# Altium footprint library NODE_V2.PcbLib: 36 footprints (part 1 of 3)
Each footprint in its own frame and in the unit in brackets; x right, y up, seen from the top. Pads: shape width x height; smd on the part's side, far side on the other; paste and mask are expansions set on the pad; w line width, h text height; cw(c..) or ccw(c..) is an arc to the next point about the centre after c.
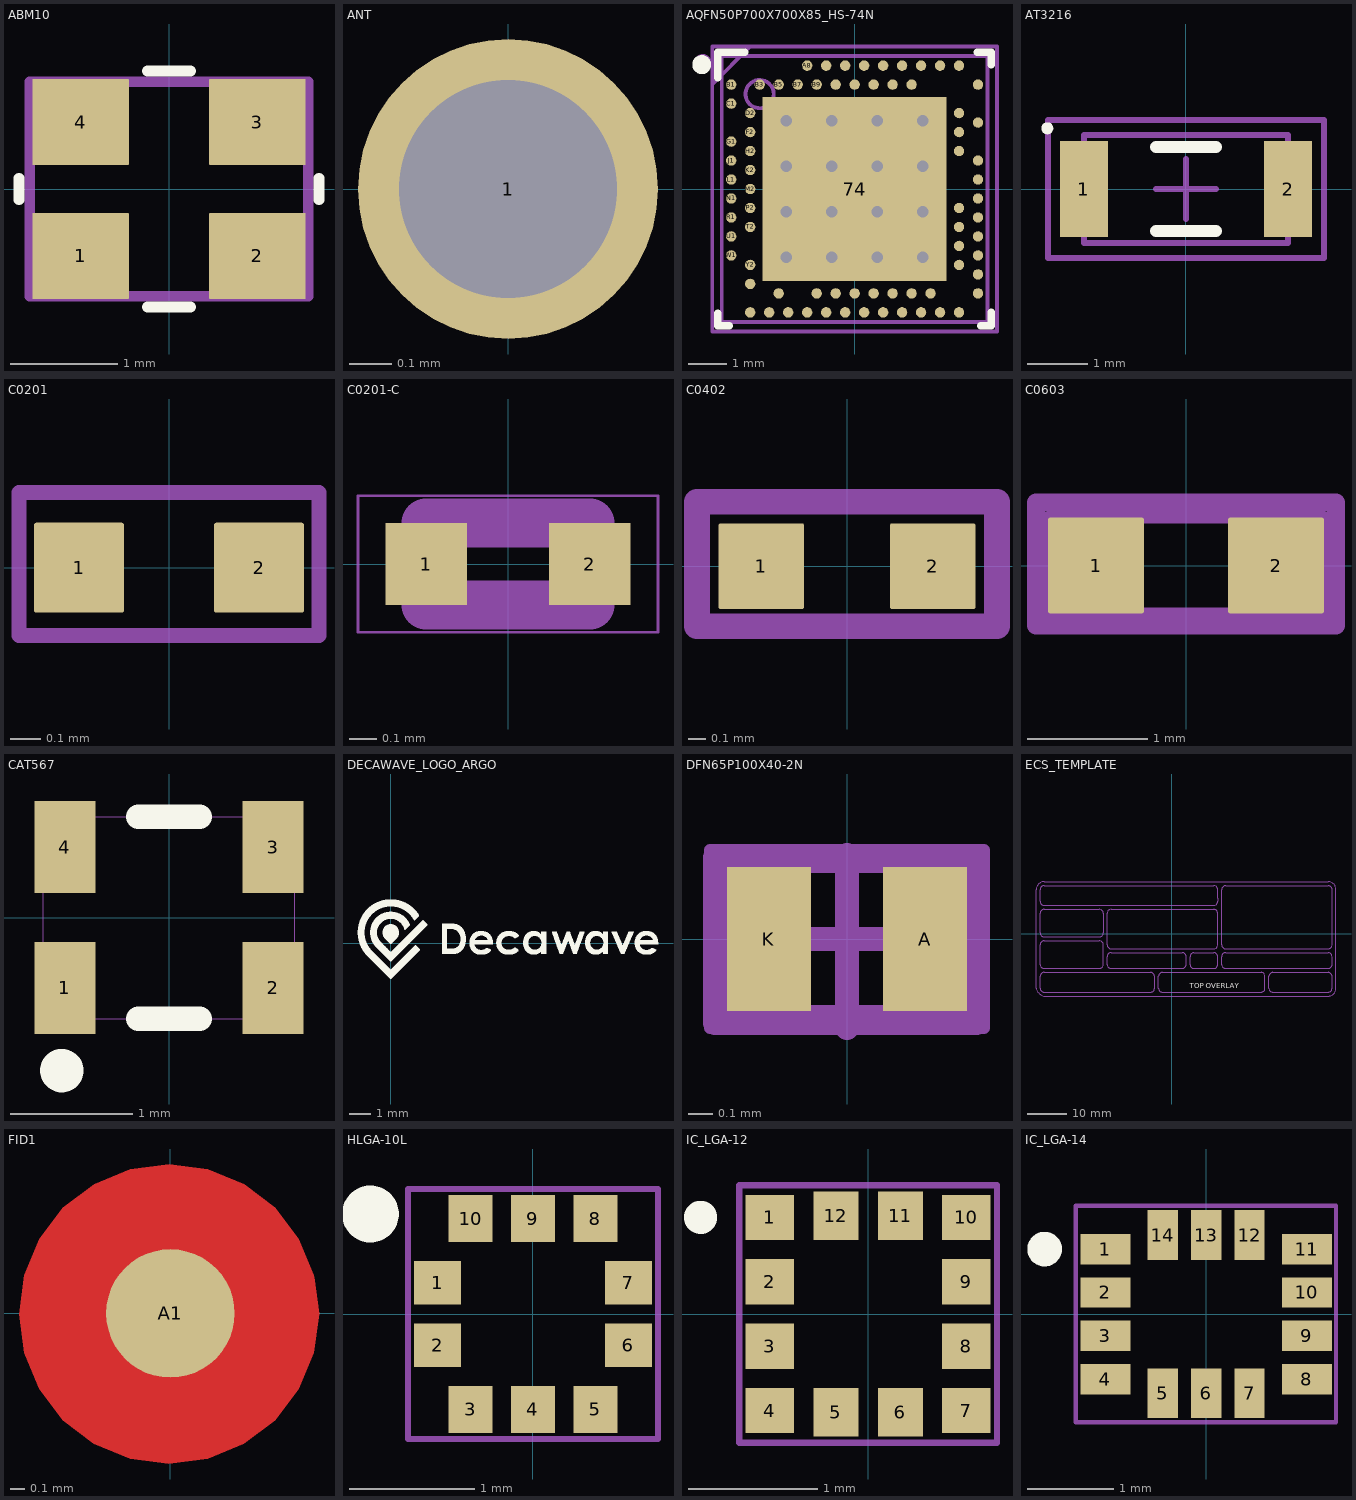
[diagram p0: the footprints below, top view; thin cyan lines are the x and y axes]

## ABM10 [mm]
pads (4):
  rrect1% 0.9x0.8 smd: 1(-0.825,-0.625) 2(0.825,-0.625) 3(0.825,0.625) 4(-0.825,0.625)
Top Overlay:
  lines w0.102: -1.4,-0.1 -1.4,0.1 ; -0.2,-1.1 0.2,-1.1 ; -0.2,1.1 0.2,1.1 ; 1.4,-0.1 1.4,0.1
Mechanical 16:
  circle w0.254: c-1.1,-0.8 r0.1
  lines w0.1: -1.3,-1 1.3,-1 1.3,1 -1.3,1 -1.3,-1
Mechanical 28:
  text "2CAS" at -1.125,-0.25 h0.6
Mechanical 29:
  text ".Designator" at 0.575,0.525 h1
3D body: height 0.51, standoff 0, extent -1.244,-1.003 1.245,1.004

## ANT [mm]
height 4.55
pads (1):
  round 0.7 hole 0.508: 1(0,0)
Mechanical 2:
  text ".Designator" at -0.356,-0.762 h0.71
3D body: height 4.55, standoff 0, extent -0.56,-0.56 0.56,0.56

## AQFN50P700X700X85_HS-74N [mm]
pads (74):
  rect 4.85x4.85 smd mask+0.05: 74(0,0)
  round 0.275 smd paste+0.012 mask+0.05: A8(-1.25,3.25) A10(-0.75,3.25) A12(-0.25,3.25) A14(0.25,3.25) A16(0.75,3.25) A18(1.25,3.25) A20(1.75,3.25) A22(2.25,3.25) A23(2.75,3.25) AA24(3.25,-2.25) AB2(-2.75,-2.5) AC5(-2,-2.75) AC9(-1,-2.75) AC11(-0.5,-2.75) AC13(0,-2.75) AC15(0.5,-2.75) AC17(1,-2.75) AC19(1.5,-2.75) AC21(2,-2.75) AC24(3.25,-2.75) AD2(-2.75,-3.25) AD4(-2.25,-3.25) AD6(-1.75,-3.25) AD8(-1.25,-3.25) AD10(-0.75,-3.25) AD12(-0.25,-3.25) AD14(0.25,-3.25) AD16(0.75,-3.25) AD18(1.25,-3.25) AD20(1.75,-3.25) AD22(2.25,-3.25) AD23(2.75,-3.25) B1(-3.25,2.75) B3(-2.5,2.75) B5(-2,2.75) B7(-1.5,2.75) B9(-1,2.75) B11(-0.5,2.75) B13(0,2.75) B15(0.5,2.75) B17(1,2.75) B19(1.5,2.75) B24(3.25,2.75) C1(-3.25,2.25) D2(-2.75,2) D23(2.75,2) E24(3.25,1.75) F2(-2.75,1.5) F23(2.75,1.5) G1(-3.25,1.25) H2(-2.75,1) H23(2.75,1) J1(-3.25,0.75) J24(3.25,0.75) K2(-2.75,0.5) L1(-3.25,0.25) L24(3.25,0.25) M2(-2.75,0) N1(-3.25,-0.25) N24(3.25,-0.25) P2(-2.75,-0.5) P23(2.75,-0.5) R1(-3.25,-0.75) R24(3.25,-0.75) T2(-2.75,-1) T23(2.75,-1) U1(-3.25,-1.25) U24(3.25,-1.25) V23(2.75,-1.5) W1(-3.25,-1.75) W24(3.25,-1.75) Y2(-2.75,-2) Y23(2.75,-2)
via 1.8,-1.8 diameter 0.61 hole 0.305
via 0.6,-1.8 diameter 0.61 hole 0.305
via -0.6,-1.8 diameter 0.61 hole 0.305
via -1.8,-1.8 diameter 0.61 hole 0.305
via 1.8,-0.6 diameter 0.61 hole 0.305
via 0.6,-0.6 diameter 0.61 hole 0.305
via -0.6,-0.6 diameter 0.61 hole 0.305
via -1.8,-0.6 diameter 0.61 hole 0.305
via 1.8,0.6 diameter 0.61 hole 0.305
via 0.6,0.6 diameter 0.61 hole 0.305
via -0.6,0.6 diameter 0.61 hole 0.305
via -1.8,0.6 diameter 0.61 hole 0.305
via 1.8,1.8 diameter 0.61 hole 0.305
via 0.6,1.8 diameter 0.61 hole 0.305
via -0.6,1.8 diameter 0.61 hole 0.305
via -1.8,1.8 diameter 0.61 hole 0.305
Top Overlay:
  circle w0.25: c-4.025,3.275 r0.125
  lines w0.2: -3.6,-3.275 -3.6,-3.6 -3.3,-3.6 ; -3.6,2.925 -3.6,3.6 -2.9,3.6 ; 3.225,3.6 3.6,3.6 3.6,3.275 ; 3.325,-3.6 3.6,-3.6 3.6,-3.25
Mechanical 7:
  circle w0.1: c-2.5,2.5 r0.373
  lines w0.1: -3.5,-3.5 -3.5,3.5 3.5,3.5 3.5,-3.5 -3.5,-3.5
  text ".Designator" at -0.178,-0.152 h0.3
Mechanical 15:
  lines w0.05: -3.75,-3.75 3.75,-3.75 3.75,3.75 -3.75,3.75 -3.75,-3.75
  lines w0.1: -0.5,0 0.5,0 ; 0,-0.5 0,0.5
Mechanical 16:
  circle w0.254: c-4,3.325 r0.1
  lines w0.1: -3.75,2.75 -2.75,3.75 -2.725,3.75 ; -3.75,-3.75 -3.75,3.75 3.75,3.75 3.75,-3.75 -3.75,-3.75
Mechanical 28:
  text ".Comment" at -3.3,-0.475 h0.55
Mechanical 29:
  text ".Designator" at -1.8,-0.875 h1.5
3D body: height 0.85, standoff 0, extent -3.55,-3.55 3.55,3.55

## AT3216 [mm]
pads (2):
  rect 0.8x1.6 smd: 1(-1.7,0) 2(1.7,0)
Top Overlay:
  circle w0.1: c-2.312,1.012 r0.05
  lines w0.2: -0.5,-0.7 0.5,-0.7 ; -0.5,0.7 0.5,0.7
Mechanical 13:
  lines w0.1: -1.7,-0.9 -1.7,0.9 1.7,0.9 1.7,-0.9 -1.7,-0.9
Mechanical 15:
  lines w0.05: -2.3,-1.15 -2.3,1.15 2.3,1.15 2.3,-1.15 -2.3,-1.15
  lines w0.1: -0.5,0 0.5,0 ; 0,-0.5 0,0.5
Mechanical 16:
  lines w0.1: -2.3,-1.15 2.3,-1.15 2.3,1.15 -2.3,1.15 -2.3,-1.15
Mechanical 28:
  text ".Comment" at -2.15,-0.2 h0.3
Mechanical 29:
  text ".Designator" at -0.225,0.6 h0.76
3D body: height 1.4, standoff 0, extent -1.7,-0.9 1.7,0.9
3D body: height 1.41, standoff 0, extent -1.2,-0.2 -0.4,0.2

## C0201 [mm]
pads (2):
  rrect5% 0.3x0.3 smd: 1(-0.3,0) 2(0.3,0)
Mechanical 16:
  lines w0.05: -0.5,-0.225 0.5,-0.225 0.5,0.25 -0.5,0.25 -0.5,-0.225
Mechanical 28:
  text ".Comment" at 0.425,0.1 h0.2
Mechanical 29:
  text ".Designator" at 0.4,0.175 h0.25
3D body: height 0.3, standoff 0, extent -0.3,-0.15 0.3,0.15

## C0201-C [mm]
height 0.8
pads (2):
  rect 0.3x0.3 smd: 1(-0.3,0) 2(0.3,0)
Mechanical 2:
  lines w0.18: -0.3,-0.15 0.3,-0.15 0.3,0.15 -0.3,0.15 -0.3,-0.15
Mechanical 16:
  lines w0.01: -0.55,-0.25 -0.55,0.25 0.55,0.25 0.55,-0.25 0,-0.25 -0.55,-0.25
Mechanical 28:
  text ".Comment" at 0.499,0.095 h0.2
Mechanical 29:
  text ".Designator" at 0.474,0.17 h0.35

## C0402 [mm]
pads (2):
  rrect5% 0.5x0.5 smd: 1(-0.5,0) 2(0.5,0)
Mechanical 16:
  lines w0.15: -0.875,-0.35 -0.875,0.375 0.875,0.375 0.875,-0.35 -0.875,-0.35
Mechanical 28:
  text ".Comment" at -0.525,-0.2 h0.45
Mechanical 29:
  text ".Designator" at -0.55,-0.195 h0.4
3D body: height 0.56, standoff 0, extent -0.5,-0.25 0.5,0.25

## C0603 [mm]
pads (2):
  rrect5% 0.8x0.8 smd mask+0: 1(-0.75,0) 2(0.75,0)
Mechanical 16:
  lines w0.1: -1.15,-0.4 -1.15,0.4 1.15,0.4 1.15,-0.4 -1.15,-0.4
  lines w0.15: -1.25,-0.5 1.25,-0.5 1.25,0.525 -1.25,0.525 -1.25,-0.5
Mechanical 28:
  text ".Comment" at 0.65,0.225 h0.4
Mechanical 29:
  text ".Designator" at 0.75,0.3 h0.6
3D body: height 0.79, standoff 0, extent -0.8,-0.425 0.8,0.435
3D body: height 0.95, standoff 0.15, extent -0.8,-0.425 0.8,0.435

## CAT567 [mm] "U?"
pads (4):
  rect 0.5x0.75 smd: 1(-0.85,-0.575) 2(0.85,-0.575) 3(0.85,0.575) 4(-0.85,0.575)
Top Overlay:
  circle w0.254: c-0.875,-1.25 r0.05
  lines w0.2: -0.25,-0.825 0.25,-0.825 ; -0.25,0.825 0.25,0.825
Mechanical 16:
  lines w0.01: -1.025,-0.825 1.025,-0.825 1.025,0.825 -1.025,0.825 -1.025,-0.825
Mechanical 28:
  text ".Comment" at 1.45,-2.875 h0.4
Mechanical 29:
  text ".Designator" at 0.525,-0.65 h0.76
3D body: height 0.8, standoff 0, extent -1.025,-0.825 1.025,0.825

## DECAWAVE_LOGO_ARGO [mm]
Top Overlay:
  drawing of 4017 lines, arcs and shapes, not listed

## DFN65P100X40-2N [mm]
pads (2):
  rect 0.35x0.6 smd mask+0: A(0.325,0) K(-0.325,0)
Mechanical 13:
  lines w0.1: -0.525,-0.325 -0.525,0.325 0.525,0.325 0.525,-0.325 -0.525,-0.325
Mechanical 15:
  lines w0.05: -0.57,-0.37 -0.57,0.37 0.57,0.37 0.57,-0.37 -0.57,-0.37
  lines w0.1: -0.5,0 0.5,0 ; 0,-0.37 0,0.35
Mechanical 16:
  circle w0.254: c-0.39,0.17 r0.041
  lines w0.1: -0.55,-0.35 -0.55,0.34 0.54,0.34 0.54,-0.35 -0.55,-0.35
Mechanical 28:
  text ".Comment" at 0.825,-0.475 h0.4
Mechanical 29:
  text ".Designator" at 0.375,0.175 h0.3
3D body: height 0.4, standoff 0, extent -0.525,-0.325 0.525,0.325
3D body: height 0.41, standoff 0, extent -0.5,-0.275 -0.35,0.275

## ECS_TEMPLATE [mm]
height 1.2
Top Overlay:
  text "TOP OVERLAY" at 4.483,-13.776 h1.27
Bottom Overlay:
  text "BOTTOM OVERLAY" at 4.242,-14.013 h1.27
Top Solder:
Mechanical 8:
  lines w0.203: -34.401,-13.748 -34.401,11.252 ; -33.401,-13.748 -33.401,-10.748 ; -33.401,-7.748 -33.401,-2.748 ; -33.401,0.252 -33.401,5.252 ; -33.401,8.252 -33.401,11.252 ; -32.401,-15.748 39.599,-15.748 ; -32.401,-14.748 -5.401,-14.748 ; -32.401,-9.748 -5.401,-9.748 ; -32.401,-8.748 -18.401,-8.748 ; -32.401,-1.748 -18.401,-1.748 ; -32.401,-0.748 -18.401,-0.748 ; -32.401,6.252 -18.401,6.252 ; -32.401,7.252 10.599,7.252 ; -32.401,12.252 10.599,12.252 ; -32.401,13.252 39.599,13.252 ; -17.401,-7.748 -17.401,-2.748 ; -17.401,0.252 -17.401,5.252 ; -16.401,-7.748 -16.401,-5.748 ; -16.401,-2.748 -16.401,5.252 ; -15.401,-8.748 2.599,-8.748 ; -15.401,-4.748 2.599,-4.748 ; -15.401,-3.748 10.599,-3.748 ; -15.401,6.252 10.599,6.252 ; -4.401,-13.748 -4.401,-10.748 ; -3.401,-13.748 -3.401,-10.748 ; -2.401,-14.748 22.599,-14.748 ; -2.401,-9.748 22.599,-9.748 ; 3.599,-7.748 3.599,-5.748 ; 4.599,-7.748 4.599,-5.748 ; 5.599,-8.748 10.599,-8.748 ; 5.599,-4.748 10.599,-4.748 ; 11.599,-7.748 11.599,-5.748 ; 11.599,-2.748 11.599,5.252 ; 11.599,8.252 11.599,9.002 ; 11.599,11.252 11.599,10.502 ; 12.599,-7.748 12.599,-5.748 ; 12.599,-2.748 12.599,11.252 ; 13.599,-8.748 39.599,-8.748 ; 13.599,-4.748 39.599,-4.748 ; 13.599,-3.748 39.599,-3.748 ; 13.599,12.252 38.599,12.252 39.599,12.252 ; 23.599,-13.748 23.599,-10.748 ; 24.599,-13.748 24.599,-10.748 ; 25.599,-14.748 39.599,-14.748 ; 25.599,-9.748 39.599,-9.748 ; 40.599,-13.748 40.599,-10.748 ; 40.599,-7.748 40.599,-5.748 ; 40.599,-2.748 40.599,11.252 ; 41.599,-13.748 41.599,11.252 ; 11.599,9.002 11.599,9.002 ; 11.599,9.002 11.599,10.502 ; 11.599,10.502 11.599,10.502
  lines w0.254: -34.401,-13.748 ccw(c-31.901,-13.248) -31.401,-15.748 ; -34.401,11.252 cw(c-32.401,11.252) -32.401,13.252 ; -33.401,-13.748 ccw(c-32.401,-13.748) -32.401,-14.748 ; -33.401,-10.748 cw(c-32.401,-10.748) -32.401,-9.748 ; -33.401,-7.748 ccw(c-32.401,-7.748) -32.401,-8.748 ; -33.401,-2.748 cw(c-32.401,-2.748) -32.401,-1.748 ; -33.401,0.252 ccw(c-32.401,0.252) -32.401,-0.748 ; -33.401,5.252 cw(c-32.401,5.252) -32.401,6.252 ; -33.401,8.252 ccw(c-32.401,8.252) -32.401,7.252 ; -33.401,11.252 cw(c-32.401,11.252) -32.401,12.252 ; -18.401,-8.748 ccw(c-18.401,-7.748) -17.401,-7.748 ; -18.401,-1.748 cw(c-18.401,-2.748) -17.401,-2.748 ; -18.401,-0.748 ccw(c-18.401,0.252) -17.401,0.252 ; -18.401,6.252 cw(c-18.401,5.252) -17.401,5.252 ; -16.401,-7.748 ccw(c-15.401,-7.748) -15.401,-8.748 ; -16.401,-5.748 cw(c-15.401,-5.748) -15.401,-4.748 ; -16.401,-2.748 ccw(c-15.401,-2.748) -15.401,-3.748 ; -16.401,5.252 cw(c-15.401,5.252) -15.401,6.252 ; -5.401,-14.748 ccw(c-5.401,-13.748) -4.401,-13.748 ; -5.401,-9.748 cw(c-5.401,-10.748) -4.401,-10.748 ; -3.401,-13.748 ccw(c-2.401,-13.748) -2.401,-14.748 ; -3.401,-10.748 cw(c-2.401,-10.748) -2.401,-9.748 ; 2.599,-8.748 ccw(c2.599,-7.748) 3.599,-7.748 ; 2.599,-4.748 cw(c2.599,-5.748) 3.599,-5.748 ; 4.599,-7.748 ccw(c5.599,-7.748) 5.599,-8.748 ; 4.599,-5.748 cw(c5.599,-5.748) 5.599,-4.748 ; 10.599,-8.748 ccw(c10.599,-7.748) 11.599,-7.748 ; 10.599,-4.748 cw(c10.599,-5.748) 11.599,-5.748 ; 10.599,-3.748 ccw(c10.599,-2.748) 11.599,-2.748 ; 10.599,6.252 cw(c10.599,5.252) 11.599,5.252 ; 10.599,7.252 ccw(c10.599,8.252) 11.599,8.252 ; 10.599,12.252 cw(c10.599,11.252) 11.599,11.252 ; 12.599,-7.748 ccw(c13.599,-7.748) 13.599,-8.748 ; 12.599,-5.748 cw(c13.599,-5.748) 13.599,-4.748 ; 12.599,-2.748 ccw(c13.599,-2.748) 13.599,-3.748 ; 12.599,11.252 cw(c13.599,11.252) 13.599,12.252 ; 22.599,-14.748 ccw(c22.599,-13.748) 23.599,-13.748 ; 22.599,-9.748 cw(c22.599,-10.748) 23.599,-10.748 ; 24.599,-13.748 ccw(c25.599,-13.748) 25.599,-14.748 ; 24.599,-10.748 cw(c25.599,-10.748) 25.599,-9.748 ; 39.599,-15.748 ccw(c39.599,-13.748) 41.599,-13.748 ; 39.599,-14.748 ccw(c39.599,-13.748) 40.599,-13.748 ; 39.599,-9.748 cw(c39.599,-10.748) 40.599,-10.748 ; 39.599,-8.748 ccw(c39.599,-7.748) 40.599,-7.748 ; 39.599,-4.748 cw(c39.599,-5.748) 40.599,-5.748 ; 39.599,-3.748 ccw(c39.599,-2.748) 40.599,-2.748 ; 39.599,12.252 cw(c39.599,11.252) 40.599,11.252 ; 39.599,13.252 cw(c39.599,11.252) 41.599,11.252
  text "COMPANY ADDRESS:" at 13.208,10.414 h1.02
  text "DATE:" at 13.599,-6.748 h1.02
  text "CAD:" at 25.599,-11.748 h1.02
  text "LAYER:" at -2.401,-11.748 h1.27
  text "FILE NAME:" at -32.401,-11.748 h1.27
  text "REV" at 5.842,-6.223 h1.02
  text "PARTNO:" at -15.401,-6.748 h1.27
  text "CAD DESIGN:" at -32.401,-3.748 h1.27
  text "TITLE:" at -15.401,4.252 h1.27
  text "ENGINEER:" at -32.401,4.252 h1.27
  text "COMPANY:" at -32.401,9.252 h1.27
  text "AOA-KIT-NODE" at -9.106,0.42 h1.27
  text "Altium" at 30.607,-12.065 h1.27
  text "AoA_Kit_Node V1B.PcbDoc" at -29.425,-13.65 h1.02
Drill Drawing:
  text "DRILL DRAWING" at 1.419,-13.93 h1.27

## FID1 [mm]
pads (1):
  round 0.9 smd paste-0.5 mask+0.5: A1(0,0)
Top Layer:
  pour cut-out: -0.93,-0.503 -0.919,-0.529 -0.752,-0.747 -0.535,-0.914 -0.281,-1.018 -0.01,-1.054 0.262,-1.018 0.515,-0.914 0.733,-0.747 0.9,-0.529 1.005,-0.276 1.04,-0.004 1.007,0.252 1.005,0.268 0.9,0.521 0.733,0.738 0.515,0.905 0.262,1.01 -0.01,1.046 -0.281,1.01 -0.535,0.905 -0.752,0.738 -0.919,0.521 -1.024,0.268 -1.06,-0.004 -1.024,-0.276

## HLGA-10L [mm]
pads (10):
  rect 0.375x0.35 smd paste-0.04 mask+0.1: 1(-0.763,0.25) 2(-0.763,-0.25) 6(0.763,-0.25) 7(0.763,0.25)
  rect 0.35x0.375 smd paste-0.04 mask+0.1: 3(-0.5,-0.763) 4(0,-0.763) 5(0.5,-0.763) 8(0.5,0.763) 9(0,0.763) 10(-0.5,0.763)
Top Overlay:
  circle w0.254: c-1.3,0.8 r0.1
Mechanical 16:
  lines w0.05: -1,-1 -1,1 1,1 1,-1 -1,-1
Mechanical 28:
  text ".Comment" at -1.55,0.95 h0.4
Mechanical 29:
  text ".Designator" at -0.325,0.525 h0.76
3D body: height 0.76, standoff 0, extent -1,-1 1,1

## IC_LGA-12 [mm] "LIS2MDL"
height 0.7
pads (12):
  rect 0.375x0.35 smd paste-0.04 mask+0.1: 1(-0.763,0.75) 2(-0.763,0.25) 3(-0.763,-0.25) 4(-0.763,-0.75) 7(0.763,-0.75) 8(0.763,-0.25) 9(0.763,0.25) 10(0.763,0.75)
  rect 0.35x0.375 smd paste-0.04 mask+0.1: 5(-0.25,-0.763) 6(0.25,-0.763) 11(0.25,0.763) 12(-0.25,0.763)
Top Overlay:
  circle w0.2: c-1.3,0.75 r0.028
Mechanical 16:
  lines w0.05: -1,-1 -1,1 1,1 1,-1 -1,-1
Mechanical 28:
  text ".Comment" at -1.525,1.325 h0.4
Mechanical 29:
  text ".Designator" at -0.475,0.5 h0.76
3D body: height 0.7, standoff 0, extent -1,-1 1,1

## IC_LGA-14 [mm] "LSM6DSL"
height 0.86
pads (14):
  rect 0.575x0.35 smd paste-0.04 mask+0.1: 1(-1.162,0.75) 2(-1.162,0.25) 3(-1.162,-0.25) 4(-1.162,-0.75) 8(1.162,-0.75) 9(1.162,-0.25) 10(1.162,0.25) 11(1.162,0.75)
  rect 0.35x0.575 smd paste-0.04 mask+0.1: 5(-0.5,-0.913) 6(0,-0.913) 7(0.5,-0.913) 12(0.5,0.913) 13(0,0.913) 14(-0.5,0.913)
Top Overlay:
  circle w0.2: c-1.863,0.75 r0.1
Mechanical 16:
  lines w0.05: -1.502,-1.249 -1.502,1.251 1.498,1.251 1.498,-1.249 -1.502,-1.249
Mechanical 28:
  text ".Comment" at 1.4,0.15 h0.4
Mechanical 29:
  text ".Designator" at 0.725,-0.575 h0.76
3D body: height 0.85, standoff -0.01, extent -1.502,-1.249 1.498,1.251